# Altium integrated library Altera Arria V GZ.IntLib: 32 symbols (part 23 of 36)
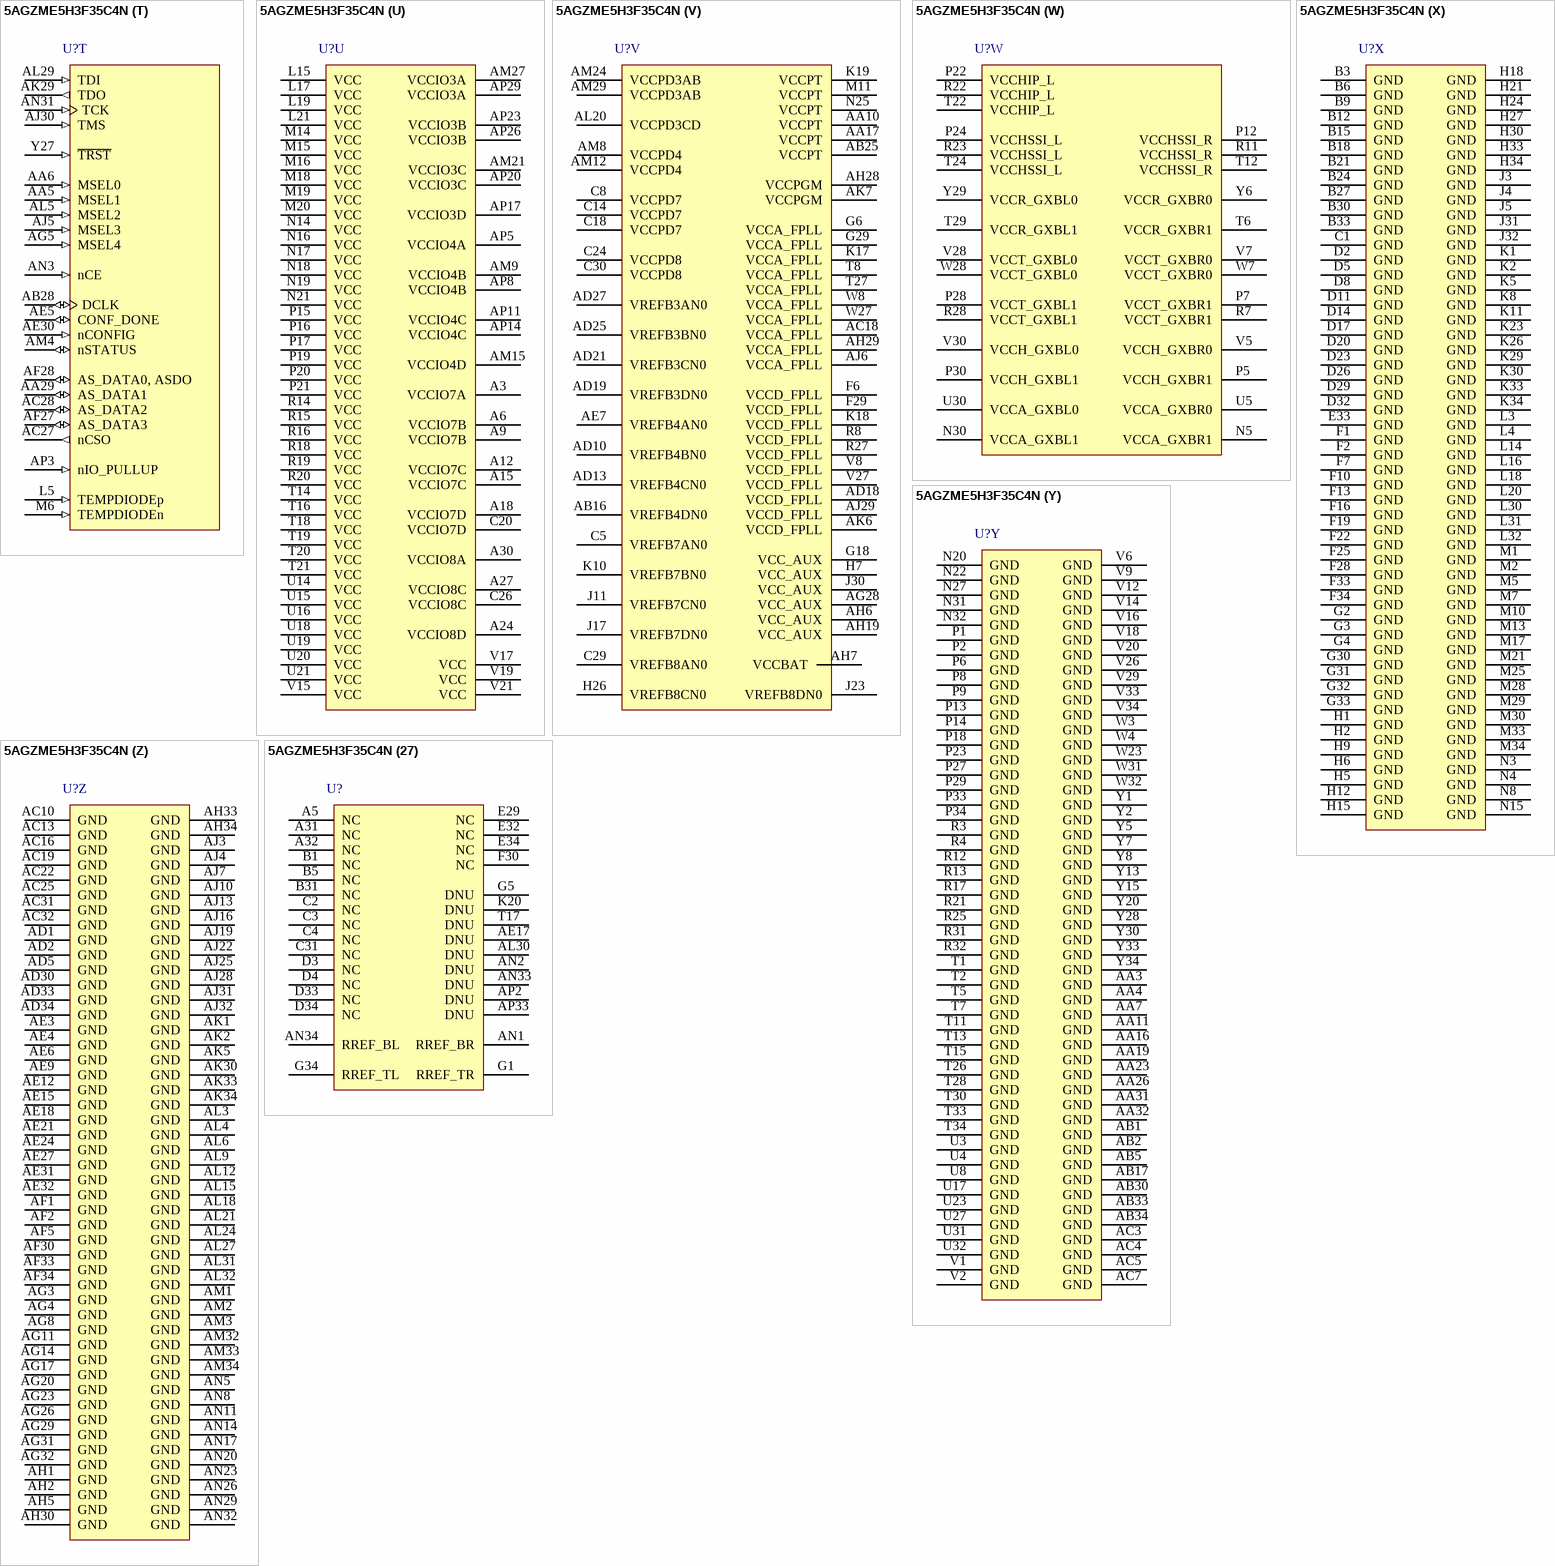
[diagram p221: symbol 5AGZME5H3F35C4N]
## 5AGZME5H3F35C4N
designator U?
Arria V GZ Family FPGA, 0.82 to 0.88 V Supply, 534 I/O Pins, 24 PLLs, 1152-Pin FBGA, Speed Grade 4, Commercial Grade, RoHS Compliant; Manufacturer: Altera; Device Group: 5AGZME5; GPIO: 534; Logic Elements (LE) (K): 400; NexusDeviceID: 5AGZME5H3F35C4N; Pb-Free: TRUE; Speed Grade: 4; DatasheetVersion: Rev. 3.5; PackageVersion: Rev. 3.0, 07/2012; PackageReference: FBGA1152_A-360; PackageDescription: 1152-Pin FineLine Ball-Grid Array (FBGA), Body 35 x 35 mm, Pitch 1 mm; Supplier 1: Digi-Key; Supplier Part Number 1: 5AGZME5H3F35C4N-ND; Supplier 2: Mouser; Supplier Part Number 2: 989-5AGZME5H3F35C4N; RoHS: RoHS Compliant; Subcategory: Arria V GZ; Voltage Supply: 0.82 to 0.88 V; Mounting Technology: Surface Mount; Code_JEDEC: MS-034; PartNumber: 5AGZME5H3F35C4N; ComponentLink1Description: Manufacturer URL; ComponentLink1URL: http://www.altera.com; ComponentLink2Description: Datasheet; ComponentLink2URL: http://www.altera.com/literature/hb/arria-v/av_51002.pdf; ComponentLink3Description: Package Specification; ComponentLink3URL: http://www.altera.com/devicepackaging/04R00441-02.pdf; ComponentLink4Description: Device Handbook URL; ComponentLink4URL: http://www.altera.com/literature/hb/arria-v/arriav_handbook.pdf; ComponentLink5Description: Device Overview URL; ComponentLink5URL: http://www.altera.com/literature/hb/arria-v/av_51001.pdf; ComponentLink6Description: Device Pin-Out URL; ComponentLink6URL: http://www.altera.com/literature/dp/arria-v/5AGZME5.xls; ComponentLink7Description: Product URL; ComponentLink7URL: http://www.buyaltera.com/scripts/partsearch.dll?Detail&name=5AGZME5H3F35C4N-ND
footprint ALTR-FBGA1152_A-360 (BGA, 1152-Balls, Body 35x35mm, Pitch 1mm)
part A pins: AA28 IO, DATA16, (DIFFIO_RX_B12p, DIFFOUT_B12p, DQ4B, DQ2B, DQ1B) (io), AA30 IO, DATA12, (DIFFIO_RX_B10p, DIFFOUT_B10p, DQS4B, DQS2B/CQ2B, DQ1B/CQn1B) (io), AB27 IO, DATA15, (DIFFIO_RX_B12n, DIFFOUT_B12n, DQ4B, DQ2B, DQ1B) (io), AB29 IO, DATA11, (DIFFIO_RX_B10n, DIFFOUT_B10n, DQSn4B, DQSn2B/DQ2B, DQ1B) (io), AC29 IO, DATA7, (DIFFIO_RX_B8n, DIFFOUT_B8n, DQSn3B, DQ2B, DQ1B) (io), AC30 IO, DATA8, (DIFFIO_RX_B8p, DIFFOUT_B8p, DQS3B, DQ2B/CQn2B, DQ1B) (io), AD28 IO, DATA14, (DIFFIO_TX_B11p, DIFFOUT_B11p, DQ4B, DQ2B, DQ1B) (io), AD29 IO, DATA6, (DIFFIO_TX_B7p, DIFFOUT_B7p, DQ3B, DQ2B, DQ1B) (io), AE28 IO, DATA13, (DIFFIO_TX_B11n, DIFFOUT_B11n, DQ4B, DQ2B, DQ1B) (io), AE29 IO, DATA5, (DIFFIO_TX_B7n, DIFFOUT_B7n, DQ3B, DQ2B, DQ1B) (io), AF29 IO, DATA9, (DIFFIO_TX_B9n, DIFFOUT_B9n, DQ3B, DQ2B, DQ1B) (io), AG27 IO, DATA18, (DIFFIO_TX_B13p, DIFFOUT_B13p, DQ5B, DQ3B, DQ1B) (io), AG30 IO, DATA10, (DIFFIO_TX_B9p, DIFFOUT_B9p, DQ3B, DQ2B, DQ1B) (io), AH26 IO, DATA20, (DIFFIO_RX_B14p, DIFFOUT_B14p, DQS5B, DQ3B/CQn3B, DQS1B/CQ1B) (io), AH27 IO, DATA17, (DIFFIO_TX_B13n, DIFFOUT_B13n, DQ5B, DQ3B, DQ1B) (io), AJ26 IO, DATA19, (DIFFIO_RX_B14n, DIFFOUT_B14n, DQSn5B, DQ3B, DQSn1B/DQ1B) (io), AJ27 IO, DATA22, (DIFFIO_TX_B15p, DIFFOUT_B15p, DQ5B, DQ3B, DQ1B) (io), AK26 IO, DATA23, (DIFFIO_RX_B16n, DIFFOUT_B16n, DQSn6B, DQSn3B/DQ3B, DQ1B) (io), AK27 IO, DATA24, (DIFFIO_RX_B16p, DIFFOUT_B16p, DQS6B, DQS3B/CQ3B, DQ1B) (io), AK28 IO, DATA21, (DIFFIO_TX_B15n, DIFFOUT_B15n, DQ5B, DQ3B, DQ1B) (io), AL25 IO, DATA28, (DIFFIO_RX_B18p, DIFFOUT_B18p, DQ6B, DQ3B, DQ1B) (io), AL26 IO, DATA26, (DIFFIO_TX_B17p, DIFFOUT_B17p, DQ6B, DQ3B, DQ1B) (io), AL28 IO, DATA3, (DIFFIO_RX_B6n, DIFFOUT_B6n, DQ2B, DQ1B) (io), AM25 IO, DATA27, (DIFFIO_RX_B18n, DIFFOUT_B18n, DQ6B, DQ3B, DQ1B) (io), AM26 IO, DATA25, (DIFFIO_TX_B17n, DIFFOUT_B17n, DQ6B, DQ3B, DQ1B) (io), AM28 IO, DATA4, (DIFFIO_RX_B6p, DIFFOUT_B6p, DQ2B, DQ1B) (io), AM30 IO, RZQ_0, (DIFFIO_RX_B2n, DIFFOUT_B2n, DQSn1B, DQ1B) (io), AM31 IO, DEV_OE, (DIFFIO_RX_B2p, DIFFOUT_B2p, DQS1B, DQ1B/CQn1B) (io), AN27 IO, DATA2, (DIFFIO_TX_B5p, DIFFOUT_B5p, DQ2B, DQ1B) (io), AN28 IO, DATA0, (DIFFIO_RX_B4p, DIFFOUT_B4p, DQS2B, DQS1B/CQ1B) (io), AN30 IO, INIT_DONE, (DIFFIO_TX_B3p, DIFFOUT_B3p, DQ1B, DQ1B) (io), AP27 IO, DATA1, (DIFFIO_TX_B5n, DIFFOUT_B5n, DQ2B, DQ1B) (io), AP28 IO, nCEO, (DIFFIO_RX_B4n, DIFFOUT_B4n, DQSn2B, DQSn1B/DQ1B) (io), AP30 IO, DEV_CLRn, (DIFFIO_TX_B3n, DIFFOUT_B3n, DQ1B, DQ1B) (io), AP31 IO, CRC_ERROR, (DIFFIO_TX_B1p, DIFFOUT_B1p, DQ1B, DQ1B) (io), AP32 IO, CLKUSR, (DIFFIO_TX_B1n, DIFFOUT_B1n, DQ1B, DQ1B) (io)
part B pins: AA24 IO, (DIFFIO_RX_B42n, DIFFOUT_B42n, DQ14B, DQ7B, DQ3B, DQ1B) (io), AA25 IO, CLK2p, (DIFFIO_RX_B28p, DIFFOUT_B28p, DQS10B, DQS5B/CQ5B, DQ2B, DQ1B/CQn1B) (io), AA27 IO, (DIFFIO_TX_B29n, DIFFOUT_B29n, DQ10B, DQ5B, DQ2B, DQ1B) (io), AB23 IO, CLK3p, (DIFFIO_RX_B30p, DIFFOUT_B30p, DQ10B, DQ5B, DQ2B, DQ1B) (io), AB24 IO, CLK3n, (DIFFIO_RX_B30n, DIFFOUT_B30n, DQ10B, DQ5B, DQ2B, DQ1B) (io), AB26 IO, CLK2n, (DIFFIO_RX_B28n, DIFFOUT_B28n, DQSn10B, DQSn5B/DQ5B, DQ2B, DQ1B) (io), AC24 IO, (DIFFIO_RX_B36p, DIFFOUT_B36p, DQ12B, DQ6B, DQ3B, DQ1B) (io), AC26 IO, (DIFFIO_RX_B32p, DIFFOUT_B32p, DQS11B, DQ6B/CQn6B, DQ3B, DQS1B/CQ1B) (io), AD24 IO, (DIFFIO_RX_B36n, DIFFOUT_B36n, DQ12B, DQ6B, DQ3B, DQ1B) (io), AD26 IO, (DIFFIO_RX_B32n, DIFFOUT_B32n, DQSn11B, DQ6B, DQ3B, DQSn1B/DQ1B) (io), AE25 IO, (DIFFIO_TX_B33p, DIFFOUT_B33p, DQ11B, DQ6B, DQ3B, DQ1B) (io), AE26 IO, (DIFFIO_TX_B31p, DIFFOUT_B31p, DQ11B, DQ6B, DQ3B, DQ1B) (io), AF24 IO, (DIFFIO_TX_B35p, DIFFOUT_B35p, DQ12B, DQ6B, DQ3B, DQ1B) (io), AF25 IO, (DIFFIO_TX_B33n, DIFFOUT_B33n, DQ11B, DQ6B, DQ3B, DQ1B) (io), AF26 IO, (DIFFIO_TX_B31n, DIFFOUT_B31n, DQ11B, DQ6B, DQ3B, DQ1B) (io), AG24 IO, (DIFFIO_TX_B35n, DIFFOUT_B35n, DQ12B, DQ6B, DQ3B, DQ1B) (io), AG25 IO, (DIFFIO_RX_B34p, DIFFOUT_B34p, DQS12B, DQS6B/CQ6B, DQ3B/CQn3B, DQ1B) (io), AH24 IO, CLK1p, (DIFFIO_RX_B24p, DIFFOUT_B24p, DQ8B, DQ4B, DQ2B, DQ1B) (io), AH25 IO, (DIFFIO_RX_B34n, DIFFOUT_B34n, DQSn12B, DQSn6B/DQ6B, DQ3B, DQ1B) (io), AJ23 IO, CvP_CONFDONE, (DIFFIO_TX_B23p, DIFFOUT_B23p, DQ8B, DQ4B, DQ2B, DQ1B) (io), AJ24 IO, CLK1n, (DIFFIO_RX_B24n, DIFFOUT_B24n, DQ8B, DQ4B, DQ2B, DQ1B) (io), AK23 IO, PR_ERROR, (DIFFIO_TX_B23n, DIFFOUT_B23n, DQ8B, DQ4B, DQ2B, DQ1B) (io), AK24 IO, CLK0n, (DIFFIO_RX_B22n, DIFFOUT_B22n, DQSn8B, DQSn4B/DQ4B, DQ2B, DQ1B) (io), AK25 IO, CLK0p, (DIFFIO_RX_B22p, DIFFOUT_B22p, DQS8B, DQS4B/CQ4B, DQ2B/CQn2B, DQ1B) (io), AL23 IO, PR_READY, (DIFFIO_TX_B21p, DIFFOUT_B21p, DQ7B, DQ4B, DQ2B, DQ1B) (io), AM23 IO, PR_REQUEST, (DIFFIO_TX_B21n, DIFFOUT_B21n, DQ7B, DQ4B, DQ2B, DQ1B) (io), AN24 IO, PR_DONE, (DIFFIO_RX_B20p, DIFFOUT_B20p, DQS7B, DQ4B/CQn4B, DQ2B, DQ1B) (io), AN25 IO, DATA30, (DIFFIO_TX_B19p, DIFFOUT_B19p, DQ7B, DQ4B, DQ2B, DQ1B) (io), AP24 IO, DATA31, (DIFFIO_RX_B20n, DIFFOUT_B20n, DQSn7B, DQ4B, DQ2B, DQ1B) (io), AP25 IO, DATA29, (DIFFIO_TX_B19n, DIFFOUT_B19n, DQ7B, DQ4B, DQ2B, DQ1B) (io), N23 IO, (DIFFIO_TX_B37p, DIFFOUT_B37p, DQ13B, DQ7B, DQ3B, DQ1B) (io), N24 IO, (DIFFIO_TX_B37n, DIFFOUT_B37n, DQ13B, DQ7B, DQ3B, DQ1B) (io), R24 IO, (DIFFIO_TX_B39p, DIFFOUT_B39p, DQ13B, DQ7B, DQ3B, DQ1B) (io), R26 IO, (DIFFIO_RX_B38n, DIFFOUT_B38n, DQSn13B, DQ7B, DQSn3B/DQ3B, DQ1B) (io), T23 IO, (DIFFIO_TX_B39n, DIFFOUT_B39n, DQ13B, DQ7B, DQ3B, DQ1B) (io), T25 IO, (DIFFIO_RX_B38p, DIFFOUT_B38p, DQS13B, DQ7B/CQn7B, DQS3B/CQ3B, DQ1B) (io), U24 IO, (DIFFIO_RX_B40p, DIFFOUT_B40p, DQS14B, DQS7B/CQ7B, DQ3B, DQ1B) (io), U25 IO, FPLL_BL_CLKOUT1, FPLL_BL_CLKOUTn, (DIFFIO_TX_B25n, DIFFOUT_B25n, DQ9B, DQ5B, DQ2B, DQ1B) (io), U26 IO, FPLL_BL_CLKOUT0, FPLL_BL_CLKOUTp, FPLL_BL_FB0, (DIFFIO_TX_B25p, DIFFOUT_B25p, DQ9B, DQ5B, DQ2B, DQ1B) (io), V23 IO, (DIFFIO_RX_B40n, DIFFOUT_B40n, DQSn14B, DQSn7B/DQ7B, DQ3B, DQ1B) (io), V24 IO, (DIFFIO_TX_B41p, DIFFOUT_B41p, DQ14B, DQ7B, DQ3B, DQ1B) (io), V25 IO, (DIFFIO_TX_B27p, DIFFOUT_B27p, DQ9B, DQ5B, DQ2B, DQ1B) (io), W24 IO, (DIFFIO_TX_B41n, DIFFOUT_B41n, DQ14B, DQ7B, DQ3B, DQ1B) (io), W25 IO, FPLL_BL_CLKOUT2, FPLL_BL_FBp, FPLL_BL_FB1, (DIFFIO_RX_B26p, DIFFOUT_B26p, DQS9B, DQ5B/CQn5B, DQS2B/CQ2B, DQ1B) (io), W26 IO, nPERSTL0, (DIFFIO_TX_B27n, DIFFOUT_B27n, DQ9B, DQ5B, DQ2B, DQ1B) (io), Y24 IO, (DIFFIO_RX_B42p, DIFFOUT_B42p, DQ14B, DQ7B, DQ3B, DQ1B) (io), Y25 IO, FPLL_BL_CLKOUT3, FPLL_BL_FBn, (DIFFIO_RX_B26n, DIFFOUT_B26n, DQSn9B, DQ5B, DQSn2B/DQ2B, DQ1B) (io), Y26 IO, (DIFFIO_TX_B29p, DIFFOUT_B29p, DQ10B, DQ5B, DQ2B, DQ1B) (io)
part C pins: AA20 IO, (DIFFIO_TX_B63p, DIFFOUT_B63p, DQ21B, DQ11B, DQ5B, DQ2B) (io), AA21 IO, (DIFFIO_RX_B62n, DIFFOUT_B62n, DQSn21B, DQ11B, DQSn5B/DQ5B, DQ2B) (io), AA22 IO, (DIFFIO_TX_B51n, DIFFOUT_B51n, DQ17B, DQ9B, DQ4B, DQ2B) (io), AB20 IO, (DIFFIO_TX_B63n, DIFFOUT_B63n, DQ21B, DQ11B, DQ5B, DQ2B) (io), AB21 IO, (DIFFIO_RX_B52p, DIFFOUT_B52p, DQS18B, DQS9B/CQ9B, DQ4B, DQ2B/CQn2B) (io), AB22 IO, (DIFFIO_RX_B52n, DIFFOUT_B52n, DQSn18B, DQSn9B/DQ9B, DQ4B, DQ2B) (io), AC20 IO, (DIFFIO_RX_B64p, DIFFOUT_B64p, DQS22B, DQS11B/CQ11B, DQ5B, DQ2B) (io), AC21 IO, (DIFFIO_RX_B64n, DIFFOUT_B64n, DQSn22B, DQSn11B/DQ11B, DQ5B, DQ2B) (io), AC23 IO, (DIFFIO_TX_B53p, DIFFOUT_B53p, DQ18B, DQ9B, DQ4B, DQ2B) (io), AD20 IO, (DIFFIO_TX_B65p, DIFFOUT_B65p, DQ22B, DQ11B, DQ5B, DQ2B) (io), AD22 IO, (DIFFIO_RX_B54p, DIFFOUT_B54p, DQ18B, DQ9B, DQ4B, DQ2B) (io), AD23 IO, (DIFFIO_TX_B53n, DIFFOUT_B53n, DQ18B, DQ9B, DQ4B, DQ2B) (io), AE20 IO, (DIFFIO_TX_B65n, DIFFOUT_B65n, DQ22B, DQ11B, DQ5B, DQ2B) (io), AE22 IO, (DIFFIO_RX_B54n, DIFFOUT_B54n, DQ18B, DQ9B, DQ4B, DQ2B) (io), AE23 IO, (DIFFIO_TX_B55p, DIFFOUT_B55p, DQ19B, DQ10B, DQ5B, DQ2B) (io), AF20 IO, (DIFFIO_RX_B66p, DIFFOUT_B66p, DQ22B, DQ11B, DQ5B, DQ2B) (io), AF21 IO, (DIFFIO_RX_B66n, DIFFOUT_B66n, DQ22B, DQ11B, DQ5B, DQ2B) (io), AF22 IO, (DIFFIO_TX_B57p, DIFFOUT_B57p, DQ19B, DQ10B, DQ5B, DQ2B) (io), AF23 IO, (DIFFIO_TX_B55n, DIFFOUT_B55n, DQ19B, DQ10B, DQ5B, DQ2B) (io), AG21 IO, (DIFFIO_RX_B58p, DIFFOUT_B58p, DQS20B, DQS10B/CQ10B, DQ5B/CQn5B, DQ2B) (io), AG22 IO, (DIFFIO_TX_B57n, DIFFOUT_B57n, DQ19B, DQ10B, DQ5B, DQ2B) (io), AH20 IO, (DIFFIO_RX_B60p, DIFFOUT_B60p, DQ20B, DQ10B, DQ5B, DQ2B) (io), AH21 IO, (DIFFIO_RX_B58n, DIFFOUT_B58n, DQSn20B, DQSn10B/DQ10B, DQ5B, DQ2B) (io), AH22 IO, (DIFFIO_RX_B56p, DIFFOUT_B56p, DQS19B, DQ10B/CQn10B, DQ5B, DQS2B/CQ2B) (io), AH23 IO, (DIFFIO_RX_B56n, DIFFOUT_B56n, DQSn19B, DQ10B, DQ5B, DQSn2B/DQ2B) (io), AJ20 IO, (DIFFIO_TX_B59p, DIFFOUT_B59p, DQ20B, DQ10B, DQ5B, DQ2B) (io), AJ21 IO, (DIFFIO_RX_B60n, DIFFOUT_B60n, DQ20B, DQ10B, DQ5B, DQ2B) (io), AK20 IO, (DIFFIO_TX_B59n, DIFFOUT_B59n, DQ20B, DQ10B, DQ5B, DQ2B) (io), AK21 IO, (DIFFIO_RX_B48p, DIFFOUT_B48p, DQ16B, DQ8B, DQ4B, DQ2B) (io), AK22 IO, (DIFFIO_RX_B48n, DIFFOUT_B48n, DQ16B, DQ8B, DQ4B, DQ2B) (io), AL22 IO, (DIFFIO_TX_B45p, DIFFOUT_B45p, DQ15B, DQ8B, DQ4B, DQ2B) (io), AM19 IO, (DIFFIO_TX_B47p, DIFFOUT_B47p, DQ16B, DQ8B, DQ4B, DQ2B) (io), AM20 IO, (DIFFIO_TX_B47n, DIFFOUT_B47n, DQ16B, DQ8B, DQ4B, DQ2B) (io), AM22 IO, (DIFFIO_TX_B45n, DIFFOUT_B45n, DQ15B, DQ8B, DQ4B, DQ2B) (io), AN19 IO, (DIFFIO_RX_B46p, DIFFOUT_B46p, DQS16B, DQS8B/CQ8B, DQ4B/CQn4B, DQ2B) (io), AN21 IO, (DIFFIO_TX_B43p, DIFFOUT_B43p, DQ15B, DQ8B, DQ4B, DQ2B) (io), AN22 IO, (DIFFIO_RX_B44p, DIFFOUT_B44p, DQS15B, DQ8B/CQn8B, DQ4B, DQ2B) (io), AP19 IO, (DIFFIO_RX_B46n, DIFFOUT_B46n, DQSn16B, DQSn8B/DQ8B, DQ4B, DQ2B) (io), AP21 IO, (DIFFIO_TX_B43n, DIFFOUT_B43n, DQ15B, DQ8B, DQ4B, DQ2B) (io), AP22 IO, (DIFFIO_RX_B44n, DIFFOUT_B44n, DQSn15B, DQ8B, DQ4B, DQ2B) (io), U22 IO, (DIFFIO_TX_B49p, DIFFOUT_B49p, DQ17B, DQ9B, DQ4B, DQ2B) (io), V22 IO, (DIFFIO_TX_B49n, DIFFOUT_B49n, DQ17B, DQ9B, DQ4B, DQ2B) (io), W20 IO, (DIFFIO_TX_B61n, DIFFOUT_B61n, DQ21B, DQ11B, DQ5B, DQ2B) (io), W21 IO, (DIFFIO_TX_B61p, DIFFOUT_B61p, DQ21B, DQ11B, DQ5B, DQ2B) (io), W22 IO, (DIFFIO_RX_B50p, DIFFOUT_B50p, DQS17B, DQ9B/CQn9B, DQS4B/CQ4B, DQ2B) (io), Y21 IO, (DIFFIO_RX_B62p, DIFFOUT_B62p, DQS21B, DQ11B/CQn11B, DQS5B/CQ5B, DQ2B) (io), Y22 IO, (DIFFIO_RX_B50n, DIFFOUT_B50n, DQSn17B, DQ9B, DQSn4B/DQ4B, DQ2B) (io), Y23 IO, (DIFFIO_TX_B51p, DIFFOUT_B51p, DQ17B, DQ9B, DQ4B, DQ2B) (io)
part D pins: AA18 IO, (DIFFIO_RX_B74n, DIFFOUT_B74n, DQSn25B, DQ13B, DQSn6B/DQ6B) (io), AB18 IO, CLK4p, (DIFFIO_RX_B76p, DIFFOUT_B76p, DQS26B, DQS13B/CQ13B, DQ6B) (io), AB19 IO, CLK4n, (DIFFIO_RX_B76n, DIFFOUT_B76n, DQSn26B, DQSn13B/DQ13B, DQ6B) (io), AE19 IO, (DIFFIO_TX_B77p, DIFFOUT_B77p, DQ26B, DQ13B, DQ6B) (io), AF18 IO, CLK5p, (DIFFIO_RX_B78p, DIFFOUT_B78p, DQ26B, DQ13B, DQ6B) (io), AF19 IO, (DIFFIO_TX_B77n, DIFFOUT_B77n, DQ26B, DQ13B, DQ6B) (io), AG18 IO, CLK5n, (DIFFIO_RX_B78n, DIFFOUT_B78n, DQ26B, DQ13B, DQ6B) (io), AG19 IO, (DIFFIO_TX_B71p, DIFFOUT_B71p, DQ24B, DQ12B, DQ6B) (io), AH18 IO, (DIFFIO_TX_B71n, DIFFOUT_B71n, DQ24B, DQ12B, DQ6B) (io), AJ18 IO, (DIFFIO_RX_B72p, DIFFOUT_B72p, DQ24B, DQ12B, DQ6B) (io), AK17 IO, (DIFFIO_RX_B70p, DIFFOUT_B70p, DQS24B, DQS12B/CQ12B, DQ6B/CQn6B) (io), AK18 IO, (DIFFIO_RX_B70n, DIFFOUT_B70n, DQSn24B, DQSn12B/DQ12B, DQ6B) (io), AK19 IO, (DIFFIO_RX_B72n, DIFFOUT_B72n, DQ24B, DQ12B, DQ6B) (io), AL17 IO, (DIFFIO_TX_B69p, DIFFOUT_B69p, DQ23B, DQ12B, DQ6B) (io), AL19 IO, (DIFFIO_RX_B68p, DIFFOUT_B68p, DQS23B, DQ12B/CQn12B, DQ6B) (io), AM17 IO, (DIFFIO_TX_B69n, DIFFOUT_B69n, DQ23B, DQ12B, DQ6B) (io), AM18 IO, (DIFFIO_RX_B68n, DIFFOUT_B68n, DQSn23B, DQ12B, DQ6B) (io), AN18 IO, (DIFFIO_TX_B67p, DIFFOUT_B67p, DQ23B, DQ12B, DQ6B) (io), AP18 IO, (DIFFIO_TX_B67n, DIFFOUT_B67n, DQ23B, DQ12B, DQ6B) (io), W18 IO, (DIFFIO_TX_B75p, DIFFOUT_B75p, DQ25B, DQ13B, DQ6B) (io), W19 IO, (DIFFIO_TX_B73p, DIFFOUT_B73p, DQ25B, DQ13B, DQ6B) (io), Y17 IO, (DIFFIO_RX_B74p, DIFFOUT_B74p, DQS25B, DQ13B/CQn13B, DQS6B/CQ6B) (io), Y18 IO, (DIFFIO_TX_B75n, DIFFOUT_B75n, DQ25B, DQ13B, DQ6B) (io), Y19 IO, (DIFFIO_TX_B73n, DIFFOUT_B73n, DQ25B, DQ13B, DQ6B) (io)
part E pins: AB6 IO, CLK10p, (DIFFIO_RX_B202p, DIFFOUT_B202p, DQS68B, DQS24B/CQ24B, DQ12B/CQn12B) (io), AB7 IO, CLK10n, (DIFFIO_RX_B202n, DIFFOUT_B202n, DQSn68B, DQSn24B/DQ24B, DQ12B) (io), AB8 IO, CLK11p, (DIFFIO_RX_B200p, DIFFOUT_B200p, DQS67B, DQ24B/CQn24B, DQ12B) (io), AC6 IO, FPLL_BR_CLKOUT2, FPLL_BR_FBp, FPLL_BR_FB1, (DIFFIO_RX_B204p, DIFFOUT_B204p, DQ68B, DQ24B, DQ12B) (io), AC8 IO, CLK11n, (DIFFIO_RX_B200n, DIFFOUT_B200n, DQSn67B, DQ24B, DQ12B) (io), AD6 IO, FPLL_BR_CLKOUT3, FPLL_BR_FBn, (DIFFIO_RX_B204n, DIFFOUT_B204n, DQ68B, DQ24B, DQ12B) (io), AD7 IO, (DIFFIO_TX_B199p, DIFFOUT_B199p, DQ67B, DQ24B, DQ12B) (io), AD8 IO, (DIFFIO_TX_B199n, DIFFOUT_B199n, DQ67B, DQ24B, DQ12B) (io), AF6 IO, FPLL_BR_CLKOUT0, FPLL_BR_CLKOUTp, FPLL_BR_FB0, (DIFFIO_TX_B203p, DIFFOUT_B203p, DQ68B, DQ24B, DQ12B) (io), AF7 IO, (DIFFIO_TX_B201p, DIFFOUT_B201p, DQ67B, DQ24B, DQ12B) (io), AG6 IO, FPLL_BR_CLKOUT1, FPLL_BR_CLKOUTn, (DIFFIO_TX_B203n, DIFFOUT_B203n, DQ68B, DQ24B, DQ12B) (io), AG7 IO, (DIFFIO_TX_B201n, DIFFOUT_B201n, DQ67B, DQ24B, DQ12B) (io), AK8 IO, (DIFFIO_TX_B205p, DIFFOUT_B205p, DQ69B, DQ25B, DQ12B) (io), AL7 IO, CLK9p, (DIFFIO_RX_B206p, DIFFOUT_B206p, DQS69B, DQ25B/CQn25B, DQS12B/CQ12B) (io), AL8 IO, (DIFFIO_TX_B205n, DIFFOUT_B205n, DQ69B, DQ25B, DQ12B) (io), AM5 IO, (DIFFIO_RX_B210n, DIFFOUT_B210n, DQ70B, DQ25B, DQ12B) (io), AM6 IO, RZQ_1, (DIFFIO_RX_B210p, DIFFOUT_B210p, DQ70B, DQ25B, DQ12B) (io), AM7 IO, CLK9n, (DIFFIO_RX_B206n, DIFFOUT_B206n, DQSn69B, DQ25B, DQSn12B/DQ12B) (io), AN4 IO, CLK8p, (DIFFIO_RX_B208p, DIFFOUT_B208p, DQS70B, DQS25B/CQ25B, DQ12B) (io), AN6 IO, (DIFFIO_TX_B209p, DIFFOUT_B209p, DQ70B, DQ25B, DQ12B) (io), AN7 IO, (DIFFIO_TX_B207p, DIFFOUT_B207p, DQ69B, DQ25B, DQ12B) (io), AP4 IO, CLK8n, (DIFFIO_RX_B208n, DIFFOUT_B208n, DQSn70B, DQSn25B/DQ25B, DQ12B) (io), AP6 IO, (DIFFIO_TX_B209n, DIFFOUT_B209n, DQ70B, DQ25B, DQ12B) (io), AP7 IO, (DIFFIO_TX_B207n, DIFFOUT_B207n, DQ69B, DQ25B, DQ12B) (io)
part F pins: AA8 IO, (DIFFIO_TX_B189n, DIFFOUT_B189n, DQ63B, DQ22B, DQ11B, DQ4B) (io), AA9 IO, (DIFFIO_TX_B187p, DIFFOUT_B187p, DQ63B, DQ22B, DQ11B, DQ4B) (io), AB9 IO, (DIFFIO_TX_B187n, DIFFOUT_B187n, DQ63B, DQ22B, DQ11B, DQ4B) (io), AB10 IO, (DIFFIO_RX_B176n, DIFFOUT_B176n, DQSn59B, DQ20B, DQ10B, DQ4B) (io), AB11 IO, (DIFFIO_RX_B176p, DIFFOUT_B176p, DQS59B, DQ20B/CQn20B, DQ10B, DQ4B) (io), AC9 IO, (DIFFIO_RX_B188p, DIFFOUT_B188p, DQS63B, DQ22B/CQn22B, DQ11B, DQS4B/CQ4B) (io), AC11 IO, (DIFFIO_TX_B175n, DIFFOUT_B175n, DQ59B, DQ20B, DQ10B, DQ4B) (io), AD9 IO, (DIFFIO_RX_B188n, DIFFOUT_B188n, DQSn63B, DQ22B, DQ11B, DQSn4B/DQ4B) (io), AD11 IO, (DIFFIO_TX_B175p, DIFFOUT_B175p, DQ59B, DQ20B, DQ10B, DQ4B) (io), AE8 IO, (DIFFIO_RX_B184p, DIFFOUT_B184p, DQS62B, DQS21B/CQ21B, DQ10B, DQ4B/CQn4B) (io), AE10 IO, (DIFFIO_TX_B177n, DIFFOUT_B177n, DQ59B, DQ20B, DQ10B, DQ4B) (io), AE11 IO, (DIFFIO_TX_B177p, DIFFOUT_B177p, DQ59B, DQ20B, DQ10B, DQ4B) (io), AF8 IO, (DIFFIO_RX_B184n, DIFFOUT_B184n, DQSn62B, DQSn21B/DQ21B, DQ10B, DQ4B) (io), AF9 IO, (DIFFIO_TX_B183p, DIFFOUT_B183p, DQ61B, DQ21B, DQ10B, DQ4B) (io), AF10 IO, (DIFFIO_TX_B183n, DIFFOUT_B183n, DQ61B, DQ21B, DQ10B, DQ4B) (io), AG9 IO, (DIFFIO_RX_B186p, DIFFOUT_B186p, DQ62B, DQ21B, DQ10B, DQ4B) (io), AG10 IO, (DIFFIO_RX_B182p, DIFFOUT_B182p, DQS61B, DQ21B/CQn21B, DQS10B/CQ10B, DQ4B) (io), AH8 IO, (DIFFIO_TX_B185p, DIFFOUT_B185p, DQ62B, DQ21B, DQ10B, DQ4B) (io), AH9 IO, (DIFFIO_RX_B186n, DIFFOUT_B186n, DQ62B, DQ21B, DQ10B, DQ4B) (io), AH10 IO, (DIFFIO_RX_B182n, DIFFOUT_B182n, DQSn61B, DQ21B, DQSn10B/DQ10B, DQ4B) (io), AH11 IO, (DIFFIO_TX_B181p, DIFFOUT_B181p, DQ61B, DQ21B, DQ10B, DQ4B) (io), AJ8 IO, (DIFFIO_TX_B185n, DIFFOUT_B185n, DQ62B, DQ21B, DQ10B, DQ4B) (io), AJ9 IO, (DIFFIO_RX_B194p, DIFFOUT_B194p, DQS65B, DQ23B/CQn23B, DQS11B/CQ11B, DQ4B) (io), AJ11 IO, (DIFFIO_TX_B181n, DIFFOUT_B181n, DQ61B, DQ21B, DQ10B, DQ4B) (io), AK9 IO, (DIFFIO_RX_B194n, DIFFOUT_B194n, DQSn65B, DQ23B, DQSn11B/DQ11B, DQ4B) (io), AK10 IO, (DIFFIO_TX_B193p, DIFFOUT_B193p, DQ65B, DQ23B, DQ11B, DQ4B) (io), AK11 IO, (DIFFIO_TX_B193n, DIFFOUT_B193n, DQ65B, DQ23B, DQ11B, DQ4B) (io), AL10 IO, (DIFFIO_RX_B196p, DIFFOUT_B196p, DQS66B, DQS23B/CQ23B, DQ11B, DQ4B) (io), AL11 IO, (DIFFIO_TX_B195p, DIFFOUT_B195p, DQ65B, DQ23B, DQ11B, DQ4B) (io), AM10 IO, (DIFFIO_RX_B196n, DIFFOUT_B196n, DQSn66B, DQSn23B/DQ23B, DQ11B, DQ4B) (io), AM11 IO, (DIFFIO_TX_B195n, DIFFOUT_B195n, DQ65B, DQ23B, DQ11B, DQ4B) (io), AN9 IO, (DIFFIO_TX_B197p, DIFFOUT_B197p, DQ66B, DQ23B, DQ11B, DQ4B) (io), AN10 IO, (DIFFIO_RX_B198p, DIFFOUT_B198p, DQ66B, DQ23B, DQ11B, DQ4B) (io), AP9 IO, (DIFFIO_TX_B197n, DIFFOUT_B197n, DQ66B, DQ23B, DQ11B, DQ4B) (io), AP10 IO, (DIFFIO_RX_B198n, DIFFOUT_B198n, DQ66B, DQ23B, DQ11B, DQ4B) (io), R10 IO, (DIFFIO_RX_B190p, DIFFOUT_B190p, DQS64B, DQS22B/CQ22B, DQ11B/CQn11B, DQ4B) (io), T10 IO, (DIFFIO_RX_B190n, DIFFOUT_B190n, DQSn64B, DQSn22B/DQ22B, DQ11B, DQ4B) (io), U9 IO, (DIFFIO_RX_B192p, DIFFOUT_B192p, DQ64B, DQ22B, DQ11B, DQ4B) (io), U10 IO, (DIFFIO_TX_B179p, DIFFOUT_B179p, DQ60B, DQ20B, DQ10B, DQ4B) (io), U11 IO, (DIFFIO_TX_B179n, DIFFOUT_B179n, DQ60B, DQ20B, DQ10B, DQ4B) (io), V10 IO, (DIFFIO_RX_B192n, DIFFOUT_B192n, DQ64B, DQ22B, DQ11B, DQ4B) (io), V11 IO, (DIFFIO_RX_B178p, DIFFOUT_B178p, DQS60B, DQS20B/CQ20B, DQ10B/CQn10B, DQ4B) (io), W9 IO, (DIFFIO_TX_B191p, DIFFOUT_B191p, DQ64B, DQ22B, DQ11B, DQ4B) (io), W10 IO, (DIFFIO_TX_B191n, DIFFOUT_B191n, DQ64B, DQ22B, DQ11B, DQ4B) (io), W11 IO, (DIFFIO_RX_B178n, DIFFOUT_B178n, DQSn60B, DQSn20B/DQ20B, DQ10B, DQ4B) (io), Y9 IO, (DIFFIO_TX_B189p, DIFFOUT_B189p, DQ63B, DQ22B, DQ11B, DQ4B) (io), Y10 IO, (DIFFIO_RX_B180p, DIFFOUT_B180p, DQ60B, DQ20B, DQ10B, DQ4B) (io), Y11 IO, (DIFFIO_RX_B180n, DIFFOUT_B180n, DQ60B, DQ20B, DQ10B, DQ4B) (io)
part G pins: AA12 IO, (DIFFIO_TX_B165p, DIFFOUT_B165p, DQ55B, DQ18B, DQ9B, DQ3B) (io), AA13 IO, (DIFFIO_RX_B166p, DIFFOUT_B166p, DQS56B, DQS18B/CQ18B, DQ9B/CQn9B, DQ3B) (io), AA14 IO, (DIFFIO_RX_B154p, DIFFOUT_B154p, DQS52B, DQS16B/CQ16B, DQ8B/CQn8B, DQ3B) (io), AA15 IO, (DIFFIO_TX_B151p, DIFFOUT_B151p, DQ51B, DQ16B, DQ8B, DQ3B) (io), AB12 IO, (DIFFIO_TX_B165n, DIFFOUT_B165n, DQ55B, DQ18B, DQ9B, DQ3B) (io), AB13 IO, (DIFFIO_RX_B166n, DIFFOUT_B166n, DQSn56B, DQSn18B/DQ18B, DQ9B, DQ3B) (io), AB14 IO, (DIFFIO_RX_B154n, DIFFOUT_B154n, DQSn52B, DQSn16B/DQ16B, DQ8B, DQ3B) (io), AB15 IO, (DIFFIO_TX_B151n, DIFFOUT_B151n, DQ51B, DQ16B, DQ8B, DQ3B) (io), AC12 IO, (DIFFIO_TX_B163p, DIFFOUT_B163p, DQ55B, DQ18B, DQ9B, DQ3B) (io), AC14 IO, (DIFFIO_TX_B153p, DIFFOUT_B153p, DQ51B, DQ16B, DQ8B, DQ3B) (io), AC15 IO, (DIFFIO_RX_B152p, DIFFOUT_B152p, DQS51B, DQ16B/CQn16B, DQ8B, DQ3B) (io), AD12 IO, (DIFFIO_TX_B163n, DIFFOUT_B163n, DQ55B, DQ18B, DQ9B, DQ3B) (io), AD14 IO, (DIFFIO_TX_B153n, DIFFOUT_B153n, DQ51B, DQ16B, DQ8B, DQ3B) (io), AD15 IO, (DIFFIO_RX_B152n, DIFFOUT_B152n, DQSn51B, DQ16B, DQ8B, DQ3B) (io), AE13 IO, (DIFFIO_RX_B164n, DIFFOUT_B164n, DQSn55B, DQ18B, DQ9B, DQSn3B/DQ3B) (io), AE14 IO, (DIFFIO_RX_B164p, DIFFOUT_B164p, DQS55B, DQ18B/CQn18B, DQ9B, DQS3B/CQ3B) (io), AF11 IO, (DIFFIO_RX_B160n, DIFFOUT_B160n, DQSn54B, DQSn17B/DQ17B, DQ8B, DQ3B) (io), AF12 IO, (DIFFIO_RX_B162p, DIFFOUT_B162p, DQ54B, DQ17B, DQ8B, DQ3B) (io), AF13 IO, (DIFFIO_RX_B162n, DIFFOUT_B162n, DQ54B, DQ17B, DQ8B, DQ3B) (io), AF14 IO, (DIFFIO_TX_B161n, DIFFOUT_B161n, DQ54B, DQ17B, DQ8B, DQ3B) (io), AF15 IO, (DIFFIO_TX_B161p, DIFFOUT_B161p, DQ54B, DQ17B, DQ8B, DQ3B) (io), AG12 IO, (DIFFIO_RX_B160p, DIFFOUT_B160p, DQS54B, DQS17B/CQ17B, DQ8B, DQ3B/CQn3B) (io), AG13 IO, (DIFFIO_TX_B157n, DIFFOUT_B157n, DQ53B, DQ17B, DQ8B, DQ3B) (io), AH12 IO, (DIFFIO_RX_B158p, DIFFOUT_B158p, DQS53B, DQ17B/CQn17B, DQS8B/CQ8B, DQ3B) (io), AH13 IO, (DIFFIO_TX_B157p, DIFFOUT_B157p, DQ53B, DQ17B, DQ8B, DQ3B) (io), AH14 IO, (DIFFIO_TX_B159p, DIFFOUT_B159p, DQ53B, DQ17B, DQ8B, DQ3B) (io), AH15 IO, (DIFFIO_TX_B159n, DIFFOUT_B159n, DQ53B, DQ17B, DQ8B, DQ3B) (io), AJ12 IO, (DIFFIO_RX_B158n, DIFFOUT_B158n, DQSn53B, DQ17B, DQSn8B/DQ8B, DQ3B) (io), AJ14 IO, (DIFFIO_RX_B170p, DIFFOUT_B170p, DQS57B, DQ19B/CQn19B, DQS9B/CQ9B, DQ3B) (io), AK12 IO, (DIFFIO_TX_B171p, DIFFOUT_B171p, DQ57B, DQ19B, DQ9B, DQ3B) (io), AK13 IO, (DIFFIO_TX_B171n, DIFFOUT_B171n, DQ57B, DQ19B, DQ9B, DQ3B) (io), AK14 IO, (DIFFIO_RX_B170n, DIFFOUT_B170n, DQSn57B, DQ19B, DQSn9B/DQ9B, DQ3B) (io), AL13 IO, (DIFFIO_RX_B172p, DIFFOUT_B172p, DQS58B, DQS19B/CQ19B, DQ9B, DQ3B) (io), AL14 IO, (DIFFIO_TX_B169p, DIFFOUT_B169p, DQ57B, DQ19B, DQ9B, DQ3B) (io), AM13 IO, (DIFFIO_RX_B172n, DIFFOUT_B172n, DQSn58B, DQSn19B/DQ19B, DQ9B, DQ3B) (io), AM14 IO, (DIFFIO_TX_B169n, DIFFOUT_B169n, DQ57B, DQ19B, DQ9B, DQ3B) (io), AN12 IO, (DIFFIO_RX_B174p, DIFFOUT_B174p, DQ58B, DQ19B, DQ9B, DQ3B) (io), AN13 IO, (DIFFIO_TX_B173p, DIFFOUT_B173p, DQ58B, DQ19B, DQ9B, DQ3B) (io), AP12 IO, (DIFFIO_RX_B174n, DIFFOUT_B174n, DQ58B, DQ19B, DQ9B, DQ3B) (io), AP13 IO, (DIFFIO_TX_B173n, DIFFOUT_B173n, DQ58B, DQ19B, DQ9B, DQ3B) (io), U12 IO, (DIFFIO_TX_B167p, DIFFOUT_B167p, DQ56B, DQ18B, DQ9B, DQ3B) (io), U13 IO, (DIFFIO_TX_B167n, DIFFOUT_B167n, DQ56B, DQ18B, DQ9B, DQ3B) (io), V13 IO, (DIFFIO_RX_B156p, DIFFOUT_B156p, DQ52B, DQ16B, DQ8B, DQ3B) (io), W12 IO, (DIFFIO_RX_B168n, DIFFOUT_B168n, DQ56B, DQ18B, DQ9B, DQ3B) (io), W13 IO, (DIFFIO_RX_B156n, DIFFOUT_B156n, DQ52B, DQ16B, DQ8B, DQ3B) (io), W14 IO, (DIFFIO_TX_B155p, DIFFOUT_B155p, DQ52B, DQ16B, DQ8B, DQ3B) (io), Y12 IO, (DIFFIO_RX_B168p, DIFFOUT_B168p, DQ56B, DQ18B, DQ9B, DQ3B) (io), Y14 IO, (DIFFIO_TX_B155n, DIFFOUT_B155n, DQ52B, DQ16B, DQ8B, DQ3B) (io)
part H pins: AC17 IO, FPLL_BC_CLKOUT0, FPLL_BC_CLKOUTp, FPLL_BC_FB0, (DIFFIO_TX_B139p, DIFFOUT_B139p, DQ47B, DQ14B, DQ7B) (io), AD16 IO, CLK7n, (DIFFIO_RX_B144n, DIFFOUT_B144n, DQ48B, DQ14B, DQ7B) (io), AD17 IO, FPLL_BC_CLKOUT1, FPLL_BC_CLKOUTn, (DIFFIO_TX_B139n, DIFFOUT_B139n, DQ47B, DQ14B, DQ7B) (io), AE16 IO, CLK7p, (DIFFIO_RX_B144p, DIFFOUT_B144p, DQ48B, DQ14B, DQ7B) (io), AF16 IO, CLK6p, (DIFFIO_RX_B142p, DIFFOUT_B142p, DQS48B, DQS14B/CQ14B, DQ7B/CQn7B) (io), AF17 IO, CLK6n, (DIFFIO_RX_B142n, DIFFOUT_B142n, DQSn48B, DQSn14B/DQ14B, DQ7B) (io), AG15 IO, (DIFFIO_TX_B143n, DIFFOUT_B143n, DQ48B, DQ14B, DQ7B) (io), AG16 IO, (DIFFIO_TX_B143p, DIFFOUT_B143p, DQ48B, DQ14B, DQ7B) (io), AH16 IO, (DIFFIO_TX_B145p, DIFFOUT_B145p, DQ49B, DQ15B, DQ7B) (io), AH17 IO, (DIFFIO_TX_B145n, DIFFOUT_B145n, DQ49B, DQ15B, DQ7B) (io), AJ15 IO, (DIFFIO_RX_B146p, DIFFOUT_B146p, DQS49B, DQ15B/CQn15B, DQS7B/CQ7B) (io), AJ17 IO, (DIFFIO_TX_B147p, DIFFOUT_B147p, DQ49B, DQ15B, DQ7B) (io), AK15 IO, (DIFFIO_RX_B146n, DIFFOUT_B146n, DQSn49B, DQ15B, DQSn7B/DQ7B) (io), AK16 IO, (DIFFIO_TX_B147n, DIFFOUT_B147n, DQ49B, DQ15B, DQ7B) (io), AL16 IO, (DIFFIO_RX_B148n, DIFFOUT_B148n, DQSn50B, DQSn15B/DQ15B, DQ7B) (io), AM16 IO, (DIFFIO_RX_B148p, DIFFOUT_B148p, DQS50B, DQS15B/CQ15B, DQ7B) (io), AN15 IO, (DIFFIO_RX_B150p, DIFFOUT_B150p, DQ50B, DQ15B, DQ7B) (io), AN16 IO, (DIFFIO_TX_B149p, DIFFOUT_B149p, DQ50B, DQ15B, DQ7B) (io), AP15 IO, (DIFFIO_RX_B150n, DIFFOUT_B150n, DQ50B, DQ15B, DQ7B) (io), AP16 IO, (DIFFIO_TX_B149n, DIFFOUT_B149n, DQ50B, DQ15B, DQ7B) (io), W15 IO, (DIFFIO_TX_B141p, DIFFOUT_B141p, DQ47B, DQ14B, DQ7B) (io), W16 IO, (DIFFIO_TX_B141n, DIFFOUT_B141n, DQ47B, DQ14B, DQ7B) (io), W17 IO, FPLL_BC_CLKOUT3, FPLL_BC_FBn, (DIFFIO_RX_B140n, DIFFOUT_B140n, DQSn47B, DQ14B, DQ7B) (io), Y16 IO, FPLL_BC_CLKOUT2, FPLL_BC_FBp, FPLL_BC_FB1, (DIFFIO_RX_B140p, DIFFOUT_B140p, DQS47B, DQ14B/CQn14B, DQ7B) (io)
part I pins: A2 IO, CLK13n, (DIFFIO_RX_T5n, DIFFOUT_T5n) (io), A4 IO, CLK15n, (DIFFIO_RX_T11n, DIFFOUT_T11n) (io), B2 IO, CLK13p, (DIFFIO_RX_T5p, DIFFOUT_T5p) (io), B4 IO, CLK15p, (DIFFIO_RX_T11p, DIFFOUT_T11p) (io), D1 IO, CLK12n, (DIFFIO_RX_T3n, DIFFOUT_T3n, DQSn1T) (io), D6 IO, CLK14p, (DIFFIO_RX_T9p, DIFFOUT_T9p, DQS3T) (io), D7 IO, CLK14n, (DIFFIO_RX_T9n, DIFFOUT_T9n, DQSn3T) (io), E1 IO, CLK12p, (DIFFIO_RX_T3p, DIFFOUT_T3p, DQS1T) (io), E2 IO, (DIFFIO_TX_T2p, DIFFOUT_T2p, DQ1T) (io), E3 IO, (DIFFIO_TX_T2n, DIFFOUT_T2n, DQ1T) (io), E4 IO, FPLL_TR_CLKOUT2, FPLL_TR_FBp, FPLL_TR_FB1, (DIFFIO_RX_T7p, DIFFOUT_T7p, DQ3T) (io), E5 IO, FPLL_TR_CLKOUT3, FPLL_TR_FBn, (DIFFIO_RX_T7n, DIFFOUT_T7n, DQ3T) (io), E6 IO, FPLL_TR_CLKOUT1, FPLL_TR_CLKOUTn, (DIFFIO_TX_T8n, DIFFOUT_T8n, DQ3T) (io), F3 IO, RZQ_4, (DIFFIO_RX_T1p, DIFFOUT_T1p, DQ1T) (io), F4 IO, (DIFFIO_RX_T1n, DIFFOUT_T1n, DQ1T) (io), F5 IO, FPLL_TR_CLKOUT0, FPLL_TR_CLKOUTp, FPLL_TR_FB0, (DIFFIO_TX_T8p, DIFFOUT_T8p, DQ3T) (io)
part J pins: A7 IO, (DIFFIO_RX_T19n, DIFFOUT_T19n, DQ7T, DQ4T, DQ2T, DQ1T) (io), A8 IO, (DIFFIO_RX_T21n, DIFFOUT_T21n, DQSn7T, DQSn4T/DQ4T, DQ2T, DQ1T) (io), A10 IO, (DIFFIO_TX_T22p, DIFFOUT_T22p, DQ8T, DQ4T, DQ2T, DQ1T) (io), A11 IO, (DIFFIO_TX_T22n, DIFFOUT_T22n, DQ8T, DQ4T, DQ2T, DQ1T) (io), B7 IO, (DIFFIO_RX_T19p, DIFFOUT_T19p, DQ7T, DQ4T, DQ2T, DQ1T) (io), B8 IO, (DIFFIO_RX_T21p, DIFFOUT_T21p, DQS7T, DQS4T/CQ4T, DQ2T/CQn2T, DQ1T) (io), B10 IO, (DIFFIO_RX_T23n, DIFFOUT_T23n, DQSn8T, DQ4T, DQ2T, DQSn1T/DQ1T) (io), B11 IO, (DIFFIO_TX_T24p, DIFFOUT_T24p, DQ8T, DQ4T, DQ2T, DQ1T) (io), C6 IO, (DIFFIO_TX_T20p, DIFFOUT_T20p, DQ7T, DQ4T, DQ2T, DQ1T) (io), C7 IO, (DIFFIO_TX_T20n, DIFFOUT_T20n, DQ7T, DQ4T, DQ2T, DQ1T) (io), C9 IO, (DIFFIO_RX_T27n, DIFFOUT_T27n, DQSn9T, DQSn5T/DQ5T, DQ3T, DQ1T) (io), C10 IO, (DIFFIO_RX_T23p, DIFFOUT_T23p, DQS8T, DQ4T/CQn4T, DQ2T, DQS1T/CQ1T) (io), C11 IO, (DIFFIO_TX_T24n, DIFFOUT_T24n, DQ8T, DQ4T, DQ2T, DQ1T) (io), D9 IO, (DIFFIO_RX_T27p, DIFFOUT_T27p, DQS9T, DQS5T/CQ5T, DQ3T, DQ1T/CQn1T) (io), D10 IO, (DIFFIO_TX_T30p, DIFFOUT_T30p, DQ10T, DQ5T, DQ3T, DQ1T) (io), E7 IO, (DIFFIO_RX_T25p, DIFFOUT_T25p, DQ9T, DQ5T, DQ3T, DQ1T) (io), E8 IO, (DIFFIO_RX_T25n, DIFFOUT_T25n, DQ9T, DQ5T, DQ3T, DQ1T) (io), E9 IO, (DIFFIO_RX_T29n, DIFFOUT_T29n, DQSn10T, DQ5T, DQSn3T/DQ3T, DQ1T) (io), E10 IO, (DIFFIO_RX_T29p, DIFFOUT_T29p, DQS10T, DQ5T/CQn5T, DQS3T/CQ3T, DQ1T) (io), E11 IO, (DIFFIO_TX_T30n, DIFFOUT_T30n, DQ10T, DQ5T, DQ3T, DQ1T) (io), F8 IO, (DIFFIO_TX_T28p, DIFFOUT_T28p, DQ10T, DQ5T, DQ3T, DQ1T) (io), F9 IO, (DIFFIO_TX_T28n, DIFFOUT_T28n, DQ10T, DQ5T, DQ3T, DQ1T) (io), G7 IO, (DIFFIO_TX_T26p, DIFFOUT_T26p, DQ9T, DQ5T, DQ3T, DQ1T) (io), G8 IO, (DIFFIO_TX_T26n, DIFFOUT_T26n, DQ9T, DQ5T, DQ3T, DQ1T) (io), G9 IO, (DIFFIO_TX_T36n, DIFFOUT_T36n, DQ12T, DQ6T, DQ3T, DQ1T) (io), G10 IO, (DIFFIO_TX_T36p, DIFFOUT_T36p, DQ12T, DQ6T, DQ3T, DQ1T) (io), H8 IO, (DIFFIO_RX_T17n, DIFFOUT_T17n, DQSn6T, DQ3T, DQSn2T/DQ2T, DQ1T) (io), H10 IO, (DIFFIO_RX_T35n, DIFFOUT_T35n, DQSn12T, DQ6T, DQ3T, DQ1T) (io), J6 IO, (DIFFIO_TX_T16n, DIFFOUT_T16n, DQ6T, DQ3T, DQ2T, DQ1T) (io), J7 IO, (DIFFIO_TX_T18n, DIFFOUT_T18n, DQ6T, DQ3T, DQ2T, DQ1T) (io), J8 IO, (DIFFIO_RX_T17p, DIFFOUT_T17p, DQS6T, DQ3T/CQn3T, DQS2T/CQ2T, DQ1T) (io), J9 IO, (DIFFIO_TX_T34n, DIFFOUT_T34n, DQ12T, DQ6T, DQ3T, DQ1T) (io), J10 IO, (DIFFIO_RX_T35p, DIFFOUT_T35p, DQS12T, DQ6T/CQn6T, DQ3T, DQ1T) (io), K6 IO, (DIFFIO_TX_T16p, DIFFOUT_T16p, DQ6T, DQ3T, DQ2T, DQ1T) (io), K7 IO, (DIFFIO_TX_T18p, DIFFOUT_T18p, DQ6T, DQ3T, DQ2T, DQ1T) (io), K9 IO, (DIFFIO_TX_T34p, DIFFOUT_T34p, DQ12T, DQ6T, DQ3T, DQ1T) (io), L6 IO, (DIFFIO_TX_T14n, DIFFOUT_T14n, DQ5T, DQ3T, DQ2T, DQ1T) (io), L7 IO, (DIFFIO_TX_T14p, DIFFOUT_T14p, DQ5T, DQ3T, DQ2T, DQ1T) (io), L8 IO, (DIFFIO_RX_T15n, DIFFOUT_T15n, DQSn5T, DQSn3T/DQ3T, DQ2T, DQ1T) (io), L9 IO, (DIFFIO_RX_T33n, DIFFOUT_T33n, DQSn11T, DQSn6T/DQ6T, DQ3T, DQ1T) (io), L10 IO, (DIFFIO_RX_T33p, DIFFOUT_T33p, DQS11T, DQS6T/CQ6T, DQ3T/CQn3T, DQ1T) (io), M8 IO, (DIFFIO_RX_T15p, DIFFOUT_T15p, DQS5T, DQS3T/CQ3T, DQ2T, DQ1T) (io), M9 IO, (DIFFIO_RX_T13n, DIFFOUT_T13n, DQ5T, DQ3T, DQ2T, DQ1T) (io), N9 IO, (DIFFIO_RX_T13p, DIFFOUT_T13p, DQ5T, DQ3T, DQ2T, DQ1T) (io), N10 IO, (DIFFIO_TX_T32p, DIFFOUT_T32p, DQ11T, DQ6T, DQ3T, DQ1T) (io), P10 IO, (DIFFIO_TX_T32n, DIFFOUT_T32n, DQ11T, DQ6T, DQ3T, DQ1T) (io), R9 IO, (DIFFIO_RX_T31n, DIFFOUT_T31n, DQ11T, DQ6T, DQ3T, DQ1T) (io), T9 IO, (DIFFIO_RX_T31p, DIFFOUT_T31p, DQ11T, DQ6T, DQ3T, DQ1T) (io)
part K pins: A13 IO, (DIFFIO_TX_T38p, DIFFOUT_T38p, DQ13T, DQ7T, DQ4T, DQ2T) (io), A14 IO, (DIFFIO_TX_T38n, DIFFOUT_T38n, DQ13T, DQ7T, DQ4T, DQ2T) (io), B13 IO, (DIFFIO_TX_T40n, DIFFOUT_T40n, DQ14T, DQ7T, DQ4T, DQ2T) (io), B14 IO, (DIFFIO_RX_T37n, DIFFOUT_T37n, DQ13T, DQ7T, DQ4T, DQ2T) (io), B16 IO, (DIFFIO_RX_T39n, DIFFOUT_T39n, DQSn13T, DQSn7T/DQ7T, DQ4T, DQ2T) (io), C12 IO, (DIFFIO_TX_T44n, DIFFOUT_T44n, DQ15T, DQ8T, DQ4T, DQ2T) (io), C13 IO, (DIFFIO_TX_T40p, DIFFOUT_T40p, DQ14T, DQ7T, DQ4T, DQ2T) (io), C15 IO, (DIFFIO_RX_T37p, DIFFOUT_T37p, DQ13T, DQ7T, DQ4T, DQ2T) (io), C16 IO, (DIFFIO_RX_T39p, DIFFOUT_T39p, DQS13T, DQS7T/CQ7T, DQ4T, DQ2T) (io), D12 IO, (DIFFIO_TX_T44p, DIFFOUT_T44p, DQ15T, DQ8T, DQ4T, DQ2T) (io), D13 IO, (DIFFIO_TX_T46p, DIFFOUT_T46p, DQ16T, DQ8T, DQ4T, DQ2T) (io), D15 IO, (DIFFIO_TX_T42n, DIFFOUT_T42n, DQ14T, DQ7T, DQ4T, DQ2T) (io), D16 IO, (DIFFIO_RX_T41n, DIFFOUT_T41n, DQSn14T, DQ7T, DQSn4T/DQ4T, DQ2T) (io), E12 IO, (DIFFIO_RX_T43p, DIFFOUT_T43p, DQ15T, DQ8T, DQ4T, DQ2T) (io), E13 IO, (DIFFIO_TX_T46n, DIFFOUT_T46n, DQ16T, DQ8T, DQ4T, DQ2T) (io), E14 IO, (DIFFIO_TX_T48n, DIFFOUT_T48n, DQ16T, DQ8T, DQ4T, DQ2T) (io), E15 IO, (DIFFIO_TX_T42p, DIFFOUT_T42p, DQ14T, DQ7T, DQ4T, DQ2T) (io), E16 IO, (DIFFIO_RX_T41p, DIFFOUT_T41p, DQS14T, DQ7T/CQn7T, DQS4T/CQ4T, DQ2T) (io), F11 IO, (DIFFIO_RX_T45n, DIFFOUT_T45n, DQSn15T, DQSn8T/DQ8T, DQ4T, DQ2T) (io), F12 IO, (DIFFIO_RX_T43n, DIFFOUT_T43n, DQ15T, DQ8T, DQ4T, DQ2T) (io), F14 IO, (DIFFIO_TX_T48p, DIFFOUT_T48p, DQ16T, DQ8T, DQ4T, DQ2T) (io), F15 IO, (DIFFIO_RX_T47n, DIFFOUT_T47n, DQSn16T, DQ8T, DQ4T, DQSn2T/DQ2T) (io), G11 IO, (DIFFIO_RX_T45p, DIFFOUT_T45p, DQS15T, DQS8T/CQ8T, DQ4T/CQn4T, DQ2T) (io), G12 IO, (DIFFIO_TX_T52n, DIFFOUT_T52n, DQ18T, DQ9T, DQ5T, DQ2T) (io), G13 IO, (DIFFIO_RX_T55n, DIFFOUT_T55n, DQ19T, DQ10T, DQ5T, DQ2T) (io), G14 IO, (DIFFIO_TX_T56n, DIFFOUT_T56n, DQ19T, DQ10T, DQ5T, DQ2T) (io), G15 IO, (DIFFIO_RX_T47p, DIFFOUT_T47p, DQS16T, DQ8T/CQn8T, DQ4T, DQS2T/CQ2T) (io), G16 IO, (DIFFIO_TX_T58n, DIFFOUT_T58n, DQ20T, DQ10T, DQ5T, DQ2T) (io), H11 IO, (DIFFIO_TX_T52p, DIFFOUT_T52p, DQ18T, DQ9T, DQ5T, DQ2T) (io), H13 IO, (DIFFIO_RX_T55p, DIFFOUT_T55p, DQ19T, DQ10T, DQ5T, DQ2T) (io), H14 IO, (DIFFIO_TX_T56p, DIFFOUT_T56p, DQ19T, DQ10T, DQ5T, DQ2T) (io), H16 IO, (DIFFIO_TX_T58p, DIFFOUT_T58p, DQ20T, DQ10T, DQ5T, DQ2T) (io), J12 IO, (DIFFIO_RX_T53n, DIFFOUT_T53n, DQSn18T, DQ9T, DQSn5T/DQ5T, DQ2T) (io), J13 IO, (DIFFIO_RX_T57n, DIFFOUT_T57n, DQSn19T, DQSn10T/DQ10T, DQ5T, DQ2T) (io), J14 IO, (DIFFIO_RX_T57p, DIFFOUT_T57p, DQS19T, DQS10T/CQ10T, DQ5T/CQn5T, DQ2T) (io), J15 IO, (DIFFIO_RX_T59p, DIFFOUT_T59p, DQS20T, DQ10T/CQn10T, DQ5T, DQ2T) (io), K12 IO, (DIFFIO_RX_T53p, DIFFOUT_T53p, DQS18T, DQ9T/CQn9T, DQS5T/CQ5T, DQ2T) (io), K13 IO, (DIFFIO_TX_T60n, DIFFOUT_T60n, DQ20T, DQ10T, DQ5T, DQ2T) (io), K14 IO, (DIFFIO_TX_T60p, DIFFOUT_T60p, DQ20T, DQ10T, DQ5T, DQ2T) (io), K15 IO, (DIFFIO_RX_T59n, DIFFOUT_T59n, DQSn20T, DQ10T, DQ5T, DQ2T) (io), L11 IO, (DIFFIO_RX_T49n, DIFFOUT_T49n, DQ17T, DQ9T, DQ5T, DQ2T) (io), L12 IO, (DIFFIO_TX_T54p, DIFFOUT_T54p, DQ18T, DQ9T, DQ5T, DQ2T) (io), L13 IO, (DIFFIO_TX_T54n, DIFFOUT_T54n, DQ18T, DQ9T, DQ5T, DQ2T) (io), M12 IO, (DIFFIO_RX_T49p, DIFFOUT_T49p, DQ17T, DQ9T, DQ5T, DQ2T) (io), N11 IO, (DIFFIO_TX_T50p, DIFFOUT_T50p, DQ17T, DQ9T, DQ5T, DQ2T) (io), N12 IO, (DIFFIO_RX_T51p, DIFFOUT_T51p, DQS17T, DQS9T/CQ9T, DQ5T, DQ2T/CQn2T) (io), N13 IO, (DIFFIO_RX_T51n, DIFFOUT_T51n, DQSn17T, DQSn9T/DQ9T, DQ5T, DQ2T) (io), P11 IO, (DIFFIO_TX_T50n, DIFFOUT_T50n, DQ17T, DQ9T, DQ5T, DQ2T) (io)
part L pins: A16 IO, (DIFFIO_RX_T61p, DIFFOUT_T61p, DQ21T, DQ11T, DQ6T) (io), A17 IO, (DIFFIO_RX_T61n, DIFFOUT_T61n, DQ21T, DQ11T, DQ6T) (io), A19 IO, (DIFFIO_TX_T64n, DIFFOUT_T64n, DQ22T, DQ11T, DQ6T) (io), A20 IO, (DIFFIO_TX_T66n, DIFFOUT_T66n, DQ22T, DQ11T, DQ6T) (io), B17 IO, (DIFFIO_TX_T62n, DIFFOUT_T62n, DQ21T, DQ11T, DQ6T) (io), B19 IO, (DIFFIO_TX_T64p, DIFFOUT_T64p, DQ22T, DQ11T, DQ6T) (io), B20 IO, (DIFFIO_TX_T66p, DIFFOUT_T66p, DQ22T, DQ11T, DQ6T) (io), C17 IO, (DIFFIO_TX_T62p, DIFFOUT_T62p, DQ21T, DQ11T, DQ6T) (io), C19 IO, (DIFFIO_RX_T65n, DIFFOUT_T65n, DQSn22T, DQ11T, DQSn6T/DQ6T) (io), D18 IO, (DIFFIO_RX_T63p, DIFFOUT_T63p, DQS21T, DQS11T/CQ11T, DQ6T) (io), D19 IO, (DIFFIO_RX_T65p, DIFFOUT_T65p, DQS22T, DQ11T/CQn11T, DQS6T/CQ6T) (io), D21 IO, (DIFFIO_RX_T77n, DIFFOUT_T77n, DQSn26T, DQ13T) (io), E17 IO, FPLL_TC_CLKOUT2, FPLL_TC_FBp, FPLL_TC_FB1, (DIFFIO_RX_T71p, DIFFOUT_T71p, DQS24T, DQ12T/CQn12T, DQ6T) (io), E18 IO, FPLL_TC_CLKOUT1, FPLL_TC_CLKOUTn, (DIFFIO_TX_T72n, DIFFOUT_T72n, DQ24T, DQ12T, DQ6T) (io), E19 IO, (DIFFIO_RX_T63n, DIFFOUT_T63n, DQSn21T, DQSn11T/DQ11T, DQ6T) (io), E20 IO, (DIFFIO_TX_T78n, DIFFOUT_T78n, DQ26T, DQ13T) (io), E21 IO, (DIFFIO_RX_T77p, DIFFOUT_T77p, DQS26T, DQ13T/CQn13T) (io), F17 IO, FPLL_TC_CLKOUT3, FPLL_TC_FBn, (DIFFIO_RX_T71n, DIFFOUT_T71n, DQSn24T, DQ12T, DQ6T) (io), F18 IO, FPLL_TC_CLKOUT0, FPLL_TC_CLKOUTp, FPLL_TC_FB0, (DIFFIO_TX_T72p, DIFFOUT_T72p, DQ24T, DQ12T, DQ6T) (io), F20 IO, (DIFFIO_TX_T78p, DIFFOUT_T78p, DQ26T, DQ13T) (io), F21 IO, (DIFFIO_RX_T75n, DIFFOUT_T75n, DQSn25T, DQSn13T/DQ13T) (io), G17 IO, (DIFFIO_TX_T70n, DIFFOUT_T70n, DQ24T, DQ12T, DQ6T) (io), G19 IO, CLK18n, (DIFFIO_RX_T69n, DIFFOUT_T69n, DQSn23T, DQSn12T/DQ12T, DQ6T) (io), G20 IO, (DIFFIO_TX_T76n, DIFFOUT_T76n, DQ26T, DQ13T) (io), G21 IO, (DIFFIO_RX_T75p, DIFFOUT_T75p, DQS25T, DQS13T/CQ13T) (io), H17 IO, (DIFFIO_TX_T70p, DIFFOUT_T70p, DQ24T, DQ12T, DQ6T) (io), H19 IO, CLK18p, (DIFFIO_RX_T69p, DIFFOUT_T69p, DQS23T, DQS12T/CQ12T, DQ6T/CQn6T) (io), H20 IO, (DIFFIO_TX_T76p, DIFFOUT_T76p, DQ26T, DQ13T) (io), J16 IO, (DIFFIO_TX_T68p, DIFFOUT_T68p, DQ23T, DQ12T, DQ6T) (io), J18 IO, CLK19n, (DIFFIO_RX_T67n, DIFFOUT_T67n, DQ23T, DQ12T, DQ6T) (io), J19 IO, CLK19p, (DIFFIO_RX_T67p, DIFFOUT_T67p, DQ23T, DQ12T, DQ6T) (io), J20 IO, (DIFFIO_TX_T74n, DIFFOUT_T74n, DQ25T, DQ13T) (io), J21 IO, (DIFFIO_RX_T73p, DIFFOUT_T73p, DQ25T, DQ13T) (io), J22 IO, (DIFFIO_RX_T73n, DIFFOUT_T73n, DQ25T, DQ13T) (io), K16 IO, (DIFFIO_TX_T68n, DIFFOUT_T68n, DQ23T, DQ12T, DQ6T) (io), K21 IO, (DIFFIO_TX_T74p, DIFFOUT_T74p, DQ25T, DQ13T) (io)
part M pins: A29 IO, CLK23n, (DIFFIO_RX_T193n, DIFFOUT_T193n) (io), A33 IO, CLK22n, (DIFFIO_RX_T195n, DIFFOUT_T195n) (io), B29 IO, CLK23p, (DIFFIO_RX_T193p, DIFFOUT_T193p) (io), B32 IO, CLK22p, (DIFFIO_RX_T195p, DIFFOUT_T195p) (io), B34 IO, FPLL_TL_CLKOUT3, FPLL_TL_FBn, (DIFFIO_RX_T197n, DIFFOUT_T197n) (io), C32 IO, FPLL_TL_CLKOUT0, FPLL_TL_CLKOUTp, FPLL_TL_FB0, (DIFFIO_TX_T198p, DIFFOUT_T198p) (io), C33 IO, FPLL_TL_CLKOUT1, FPLL_TL_CLKOUTn, (DIFFIO_TX_T198n, DIFFOUT_T198n) (io), C34 IO, FPLL_TL_CLKOUT2, FPLL_TL_FBp, FPLL_TL_FB1, (DIFFIO_RX_T197p, DIFFOUT_T197p) (io), D30 IO, CLK21n, (DIFFIO_RX_T199n, DIFFOUT_T199n) (io), D31 IO, CLK20n, (DIFFIO_RX_T201n, DIFFOUT_T201n) (io), E30 IO, CLK21p, (DIFFIO_RX_T199p, DIFFOUT_T199p) (io), E31 IO, CLK20p, (DIFFIO_RX_T201p, DIFFOUT_T201p) (io), F31 IO, RZQ_5, (DIFFIO_RX_T203n, DIFFOUT_T203n) (io), F32 IO, (DIFFIO_RX_T203p, DIFFOUT_T203p) (io)
part N pins: A25 IO, (DIFFIO_RX_T145n, DIFFOUT_T145n, DQ49T, DQ16T, DQ8T, DQ3T) (io), A26 IO, (DIFFIO_RX_T145p, DIFFOUT_T145p, DQ49T, DQ16T, DQ8T, DQ3T) (io), A28 IO, (DIFFIO_TX_T148n, DIFFOUT_T148n, DQ50T, DQ16T, DQ8T, DQ3T) (io), B25 IO, (DIFFIO_TX_T146n, DIFFOUT_T146n, DQ49T, DQ16T, DQ8T, DQ3T) (io), B26 IO, (DIFFIO_RX_T147p, DIFFOUT_T147p, DQS49T, DQS16T/CQ16T, DQ8T, DQ3T) (io), B28 IO, (DIFFIO_TX_T148p, DIFFOUT_T148p, DQ50T, DQ16T, DQ8T, DQ3T) (io), C25 IO, (DIFFIO_TX_T146p, DIFFOUT_T146p, DQ49T, DQ16T, DQ8T, DQ3T) (io), C27 IO, (DIFFIO_RX_T147n, DIFFOUT_T147n, DQSn49T, DQSn16T/DQ16T, DQ8T, DQ3T) (io), C28 IO, (DIFFIO_TX_T150p, DIFFOUT_T150p, DQ50T, DQ16T, DQ8T, DQ3T) (io), D25 IO, (DIFFIO_RX_T165n, DIFFOUT_T165n, DQSn55T, DQSn19T/DQ19T, DQ9T, DQ3T) (io), D27 IO, (DIFFIO_RX_T149n, DIFFOUT_T149n, DQSn50T, DQ16T, DQSn8T/DQ8T, DQ3T) (io), D28 IO, (DIFFIO_TX_T150n, DIFFOUT_T150n, DQ50T, DQ16T, DQ8T, DQ3T) (io), E25 IO, (DIFFIO_RX_T165p, DIFFOUT_T165p, DQS55T, DQS19T/CQ19T, DQ9T/CQn9T, DQ3T) (io), E26 IO, (DIFFIO_TX_T164n, DIFFOUT_T164n, DQ55T, DQ19T, DQ9T, DQ3T) (io), E27 IO, (DIFFIO_RX_T149p, DIFFOUT_T149p, DQS50T, DQ16T/CQn16T, DQS8T/CQ8T, DQ3T) (io), E28 IO, (DIFFIO_RX_T167n, DIFFOUT_T167n, DQSn56T, DQ19T, DQ9T, DQ3T) (io), F24 IO, (DIFFIO_RX_T163n, DIFFOUT_T163n, DQ55T, DQ19T, DQ9T, DQ3T) (io), F26 IO, (DIFFIO_TX_T164p, DIFFOUT_T164p, DQ55T, DQ19T, DQ9T, DQ3T) (io), F27 IO, (DIFFIO_RX_T167p, DIFFOUT_T167p, DQS56T, DQ19T/CQn19T, DQ9T, DQ3T) (io), G24 IO, (DIFFIO_RX_T163p, DIFFOUT_T163p, DQ55T, DQ19T, DQ9T, DQ3T) (io), G25 IO, (DIFFIO_TX_T158n, DIFFOUT_T158n, DQ53T, DQ18T, DQ9T, DQ3T) (io), G26 IO, (DIFFIO_RX_T159p, DIFFOUT_T159p, DQS53T, DQS18T/CQ18T, DQ9T, DQ3T/CQn3T) (io), G27 IO, (DIFFIO_RX_T159n, DIFFOUT_T159n, DQSn53T, DQSn18T/DQ18T, DQ9T, DQ3T) (io), G28 IO, (DIFFIO_TX_T166n, DIFFOUT_T166n, DQ56T, DQ19T, DQ9T, DQ3T) (io), H25 IO, (DIFFIO_TX_T158p, DIFFOUT_T158p, DQ53T, DQ18T, DQ9T, DQ3T) (io), H28 IO, (DIFFIO_TX_T166p, DIFFOUT_T166p, DQ56T, DQ19T, DQ9T, DQ3T) (io), H29 IO, (DIFFIO_TX_T168n, DIFFOUT_T168n, DQ56T, DQ19T, DQ9T, DQ3T) (io), J24 IO, (DIFFIO_TX_T152n, DIFFOUT_T152n, DQ51T, DQ17T, DQ8T, DQ3T) (io), J25 IO, (DIFFIO_RX_T153p, DIFFOUT_T153p, DQS51T, DQS17T/CQ17T, DQ8T/CQn8T, DQ3T) (io), J26 IO, (DIFFIO_RX_T153n, DIFFOUT_T153n, DQSn51T, DQSn17T/DQ17T, DQ8T, DQ3T) (io), J27 IO, (DIFFIO_RX_T157n, DIFFOUT_T157n, DQ53T, DQ18T, DQ9T, DQ3T) (io), J28 IO, (DIFFIO_RX_T161n, DIFFOUT_T161n, DQSn54T, DQ18T, DQSn9T/DQ9T, DQ3T) (io), J29 IO, (DIFFIO_TX_T168p, DIFFOUT_T168p, DQ56T, DQ19T, DQ9T, DQ3T) (io), K24 IO, (DIFFIO_RX_T151n, DIFFOUT_T151n, DQ51T, DQ17T, DQ8T, DQ3T) (io), K25 IO, (DIFFIO_TX_T152p, DIFFOUT_T152p, DQ51T, DQ17T, DQ8T, DQ3T) (io), K27 IO, (DIFFIO_RX_T157p, DIFFOUT_T157p, DQ53T, DQ18T, DQ9T, DQ3T) (io), K28 IO, (DIFFIO_RX_T161p, DIFFOUT_T161p, DQS54T, DQ18T/CQn18T, DQS9T/CQ9T, DQ3T) (io), L24 IO, (DIFFIO_RX_T151p, DIFFOUT_T151p, DQ51T, DQ17T, DQ8T, DQ3T) (io), L25 IO, (DIFFIO_TX_T154p, DIFFOUT_T154p, DQ52T, DQ17T, DQ8T, DQ3T) (io), L26 IO, (DIFFIO_TX_T154n, DIFFOUT_T154n, DQ52T, DQ17T, DQ8T, DQ3T) (io), L27 IO, (DIFFIO_TX_T160p, DIFFOUT_T160p, DQ54T, DQ18T, DQ9T, DQ3T) (io), L28 IO, (DIFFIO_TX_T162p, DIFFOUT_T162p, DQ54T, DQ18T, DQ9T, DQ3T) (io), L29 IO, (DIFFIO_TX_T162n, DIFFOUT_T162n, DQ54T, DQ18T, DQ9T, DQ3T) (io), M26 IO, (DIFFIO_TX_T156n, DIFFOUT_T156n, DQ52T, DQ17T, DQ8T, DQ3T) (io), M27 IO, (DIFFIO_TX_T160n, DIFFOUT_T160n, DQ54T, DQ18T, DQ9T, DQ3T) (io), N26 IO, (DIFFIO_TX_T156p, DIFFOUT_T156p, DQ52T, DQ17T, DQ8T, DQ3T) (io), P25 IO, (DIFFIO_RX_T155p, DIFFOUT_T155p, DQS52T, DQ17T/CQn17T, DQ8T, DQS3T/CQ3T) (io), P26 IO, (DIFFIO_RX_T155n, DIFFOUT_T155n, DQSn52T, DQ17T, DQ8T, DQSn3T/DQ3T) (io)
part O pins: A21 IO, CLK17p, (DIFFIO_RX_T133p, DIFFOUT_T133p, DQ45T, DQ14T, DQ7T) (io), A22 IO, CLK17n, (DIFFIO_RX_T133n, DIFFOUT_T133n, DQ45T, DQ14T, DQ7T) (io), A23 IO, CLK16n, (DIFFIO_RX_T135n, DIFFOUT_T135n, DQSn45T, DQSn14T/DQ14T, DQ7T) (io), B22 IO, (DIFFIO_TX_T134n, DIFFOUT_T134n, DQ45T, DQ14T, DQ7T) (io), B23 IO, CLK16p, (DIFFIO_RX_T135p, DIFFOUT_T135p, DQS45T, DQS14T/CQ14T, DQ7T) (io), C21 IO, (DIFFIO_TX_T134p, DIFFOUT_T134p, DQ45T, DQ14T, DQ7T) (io), C22 IO, (DIFFIO_RX_T137n, DIFFOUT_T137n, DQSn46T, DQ14T, DQSn7T/DQ7T) (io), C23 IO, (DIFFIO_TX_T138p, DIFFOUT_T138p, DQ46T, DQ14T, DQ7T) (io), D22 IO, (DIFFIO_RX_T137p, DIFFOUT_T137p, DQS46T, DQ14T/CQn14T, DQS7T/CQ7T) (io), D24 IO, (DIFFIO_TX_T138n, DIFFOUT_T138n, DQ46T, DQ14T, DQ7T) (io), E22 IO, (DIFFIO_RX_T143n, DIFFOUT_T143n, DQSn48T, DQ15T, DQ7T) (io), E23 IO, (DIFFIO_TX_T136n, DIFFOUT_T136n, DQ46T, DQ14T, DQ7T) (io), E24 IO, (DIFFIO_TX_T136p, DIFFOUT_T136p, DQ46T, DQ14T, DQ7T) (io), F23 IO, (DIFFIO_RX_T143p, DIFFOUT_T143p, DQS48T, DQ15T/CQn15T, DQ7T) (io), G22 IO, (DIFFIO_TX_T142n, DIFFOUT_T142n, DQ48T, DQ15T, DQ7T) (io), G23 IO, (DIFFIO_TX_T144n, DIFFOUT_T144n, DQ48T, DQ15T, DQ7T) (io), H22 IO, (DIFFIO_TX_T142p, DIFFOUT_T142p, DQ48T, DQ15T, DQ7T) (io), H23 IO, (DIFFIO_TX_T144p, DIFFOUT_T144p, DQ48T, DQ15T, DQ7T) (io), K22 IO, (DIFFIO_RX_T141n, DIFFOUT_T141n, DQSn47T, DQSn15T/DQ15T, DQ7T) (io), L22 IO, (DIFFIO_TX_T140n, DIFFOUT_T140n, DQ47T, DQ15T, DQ7T) (io), L23 IO, (DIFFIO_RX_T141p, DIFFOUT_T141p, DQS47T, DQS15T/CQ15T, DQ7T/CQn7T) (io), M22 IO, (DIFFIO_TX_T140p, DIFFOUT_T140p, DQ47T, DQ15T, DQ7T) (io), M23 IO, (DIFFIO_RX_T139n, DIFFOUT_T139n, DQ47T, DQ15T, DQ7T) (io), M24 IO, (DIFFIO_RX_T139p, DIFFOUT_T139p, DQ47T, DQ15T, DQ7T) (io)
part P pins: AA33 GXB_RX_L5p, GXB_REFCLK_L5p (in), AA34 GXB_RX_L5n, GXB_REFCLK_L5n (in), AB31 GXB_TX_L4p (out), AB32 GXB_TX_L4n (out), AC33 GXB_RX_L4p, GXB_REFCLK_L4p (in), AC34 GXB_RX_L4n, GXB_REFCLK_L4n (in), AD31 GXB_TX_L3p (out), AD32 GXB_TX_L3n (out), AE33 GXB_RX_L3p, GXB_REFCLK_L3p (in), AE34 GXB_RX_L3n, GXB_REFCLK_L3n (in), AF31 GXB_TX_L2p (out), AF32 GXB_TX_L2n (out), AG33 GXB_RX_L2p, GXB_REFCLK_L2p (in), AG34 GXB_RX_L2n, GXB_REFCLK_L2n (in), AH31 GXB_TX_L1p (out), AH32 GXB_TX_L1n (out), AJ33 GXB_RX_L1p, GXB_REFCLK_L1p (in), AJ34 GXB_RX_L1n, GXB_REFCLK_L1n (in), AK31 GXB_TX_L0p (out), AK32 GXB_TX_L0n (out), AL33 GXB_RX_L0p, GXB_REFCLK_L0p (in), AL34 GXB_RX_L0n, GXB_REFCLK_L0n (in), U28 REFCLK1Lp (in), U29 REFCLK1Ln (in), W29 REFCLK0Lp (in), W30 REFCLK0Ln (in), Y31 GXB_TX_L5p (out), Y32 GXB_TX_L5n (out)
part Q pins: H31 GXB_TX_L11p (out), H32 GXB_TX_L11n (out), J33 GXB_RX_L11p, GXB_REFCLK_L11p (in), J34 GXB_RX_L11n, GXB_REFCLK_L11n (in), K31 GXB_TX_L10p (out), K32 GXB_TX_L10n (out), L33 GXB_RX_L10p, GXB_REFCLK_L10p (in), L34 GXB_RX_L10n, GXB_REFCLK_L10n (in), M31 GXB_TX_L9p (out), M32 GXB_TX_L9n (out), N28 REFCLK3Lp (in), N29 REFCLK3Ln (in), N33 GXB_RX_L9p, GXB_REFCLK_L9p (in), N34 GXB_RX_L9n, GXB_REFCLK_L9n (in), P31 GXB_TX_L8p (out), P32 GXB_TX_L8n (out), R29 REFCLK2Lp (in), R30 REFCLK2Ln (in), R33 GXB_RX_L8p, GXB_REFCLK_L8p (in), R34 GXB_RX_L8n, GXB_REFCLK_L8n (in), T31 GXB_TX_L7p (out), T32 GXB_TX_L7n (out), U33 GXB_RX_L7p, GXB_REFCLK_L7p (in), U34 GXB_RX_L7n, GXB_REFCLK_L7n (in), V31 GXB_TX_L6p (out), V32 GXB_TX_L6n (out), W33 GXB_RX_L6p, GXB_REFCLK_L6p (in), W34 GXB_RX_L6n, GXB_REFCLK_L6n (in)
part R pins: AA1 GXB_RX_R5n, GXB_REFCLK_R5n (in), AA2 GXB_RX_R5p, GXB_REFCLK_R5p (in), AB3 GXB_TX_R4n (out), AB4 GXB_TX_R4p (out), AC1 GXB_RX_R4n, GXB_REFCLK_R4n (in), AC2 GXB_RX_R4p, GXB_REFCLK_R4p (in), AD3 GXB_TX_R3n (out), AD4 GXB_TX_R3p (out), AE1 GXB_RX_R3n, GXB_REFCLK_R3n (in), AE2 GXB_RX_R3p, GXB_REFCLK_R3p (in), AF3 GXB_TX_R2n (out), AF4 GXB_TX_R2p (out), AG1 GXB_RX_R2n, GXB_REFCLK_R2n (in), AG2 GXB_RX_R2p, GXB_REFCLK_R2p (in), AH3 GXB_TX_R1n (out), AH4 GXB_TX_R1p (out), AJ1 GXB_RX_R1n, GXB_REFCLK_R1n (in), AJ2 GXB_RX_R1p, GXB_REFCLK_R1p (in), AK3 GXB_TX_R0n (out), AK4 GXB_TX_R0p (out), AL1 GXB_RX_R0n, GXB_REFCLK_R0n (in), AL2 GXB_RX_R0p, GXB_REFCLK_R0p (in), U6 REFCLK1Rn (in), U7 REFCLK1Rp (in), W5 REFCLK0Rn (in), W6 REFCLK0Rp (in), Y3 GXB_TX_R5n (out), Y4 GXB_TX_R5p (out)
part S pins: H3 GXB_TX_R11n (out), H4 GXB_TX_R11p (out), J1 GXB_RX_R11n, GXB_REFCLK_R11n (in), J2 GXB_RX_R11p, GXB_REFCLK_R11p (in), K3 GXB_TX_R10n (out), K4 GXB_TX_R10p (out), L1 GXB_RX_R10n, GXB_REFCLK_R10n (in), L2 GXB_RX_R10p, GXB_REFCLK_R10p (in), M3 GXB_TX_R9n (out), M4 GXB_TX_R9p (out), N1 GXB_RX_R9n, GXB_REFCLK_R9n (in), N2 GXB_RX_R9p, GXB_REFCLK_R9p (in), N6 REFCLK3Rn (in), N7 REFCLK3Rp (in), P3 GXB_TX_R8n (out), P4 GXB_TX_R8p (out), R1 GXB_RX_R8n, GXB_REFCLK_R8n (in), R2 GXB_RX_R8p, GXB_REFCLK_R8p (in), R5 REFCLK2Rn (in), R6 REFCLK2Rp (in), T3 GXB_TX_R7n (out), T4 GXB_TX_R7p (out), U1 GXB_RX_R7n, GXB_REFCLK_R7n (in), U2 GXB_RX_R7p, GXB_REFCLK_R7p (in), V3 GXB_TX_R6n (out), V4 GXB_TX_R6p (out), W1 GXB_RX_R6n, GXB_REFCLK_R6n (in), W2 GXB_RX_R6p, GXB_REFCLK_R6p (in)
part T pins: AA5 MSEL1 (in), AA6 MSEL0 (in), AA29 AS_DATA1 (io), AB28 DCLK (io), AC27 nCSO (out), AC28 AS_DATA2 (io), AE5 CONF_DONE (io), AE30 nCONFIG (in), AF27 AS_DATA3 (io), AF28 AS_DATA0, ASDO (io), AG5 MSEL4 (in), AJ5 MSEL3 (in), AJ30 TMS (in), AK29 TDO (out), AL5 MSEL2 (in), AL29 TDI (in), AM4 nSTATUS (io), AN3 nCE (in), AN31 TCK (in), AP3 nIO_PULLUP (in), L5 TEMPDIODEp (in), M6 TEMPDIODEn (in), Y27 ~{TRST} (in)
part U pins: A3 VCCIO7A (power), A6 VCCIO7B (power), A9 VCCIO7B (power), A12 VCCIO7C (power), A15 VCCIO7C (power), A18 VCCIO7D (power), A24 VCCIO8D (power), A27 VCCIO8C (power), A30 VCCIO8A (power), AM9 VCCIO4B (power), AM15 VCCIO4D (power), AM21 VCCIO3C (power), AM27 VCCIO3A (power), AP5 VCCIO4A (power), AP8 VCCIO4B (power), AP11 VCCIO4C (power), AP14 VCCIO4C (power), AP17 VCCIO3D (power), AP20 VCCIO3C (power), AP23 VCCIO3B (power), AP26 VCCIO3B (power), AP29 VCCIO3A (power), C20 VCCIO7D (power), C26 VCCIO8C (power), L15 VCC (power), L17 VCC (power), L19 VCC (power), L21 VCC (power), M14 VCC (power), M15 VCC (power), M16 VCC (power), M18 VCC (power), M19 VCC (power), M20 VCC (power), N14 VCC (power), N16 VCC (power), N17 VCC (power), N18 VCC (power), N19 VCC (power), N21 VCC (power), P15 VCC (power), P16 VCC (power), P17 VCC (power), P19 VCC (power), P20 VCC (power), P21 VCC (power), R14 VCC (power), R15 VCC (power), R16 VCC (power), R18 VCC (power), R19 VCC (power), R20 VCC (power), T14 VCC (power), T16 VCC (power), T18 VCC (power), T19 VCC (power), T20 VCC (power), T21 VCC (power), U14 VCC (power), U15 VCC (power), U16 VCC (power), U18 VCC (power), U19 VCC (power), U20 VCC (power), U21 VCC (power), V15 VCC (power), V17 VCC (power), V19 VCC (power), V21 VCC (power)
part V pins: AA10 VCCPT (power), AA17 VCCPT (power), AB16 VREFB4DN0 (power), AB25 VCCPT (power), AC18 VCCA_FPLL (power), AD10 VREFB4BN0 (power), AD13 VREFB4CN0 (power), AD18 VCCD_FPLL (power), AD19 VREFB3DN0 (power), AD21 VREFB3CN0 (power), AD25 VREFB3BN0 (power), AD27 VREFB3AN0 (power), AE7 VREFB4AN0 (power), AG28 VCC_AUX (power), AH6 VCC_AUX (power), AH7 VCCBAT (power), AH19 VCC_AUX (power), AH28 VCCPGM (power), AH29 VCCA_FPLL (power), AJ6 VCCA_FPLL (power), AJ29 VCCD_FPLL (power), AK6 VCCD_FPLL (power), AK7 VCCPGM (power), AL20 VCCPD3CD (power), AM8 VCCPD4 (power), AM12 VCCPD4 (power), AM24 VCCPD3AB (power), AM29 VCCPD3AB (power), C5 VREFB7AN0 (power), C8 VCCPD7 (power), C14 VCCPD7 (power), C18 VCCPD7 (power), C24 VCCPD8 (power), C29 VREFB8AN0 (power), C30 VCCPD8 (power), F6 VCCD_FPLL (power), F29 VCCD_FPLL (power), G6 VCCA_FPLL (power), G18 VCC_AUX (power), G29 VCCA_FPLL (power), H7 VCC_AUX (power), H26 VREFB8CN0 (power), J11 VREFB7CN0 (power), J17 VREFB7DN0 (power), J23 VREFB8DN0 (power), J30 VCC_AUX (power), K10 VREFB7BN0 (power), K17 VCCA_FPLL (power), K18 VCCD_FPLL (power), K19 VCCPT (power), M11 VCCPT (power), N25 VCCPT (power), R8 VCCD_FPLL (power), R27 VCCD_FPLL (power), T8 VCCA_FPLL (power), T27 VCCA_FPLL (power), V8 VCCD_FPLL (power), V27 VCCD_FPLL (power), W8 VCCA_FPLL (power), W27 VCCA_FPLL (power)
part W pins: N5 VCCA_GXBR1 (power), N30 VCCA_GXBL1 (power), P5 VCCH_GXBR1 (power), P7 VCCT_GXBR1 (power), P12 VCCHSSI_R (power), P22 VCCHIP_L (power), P24 VCCHSSI_L (power), P28 VCCT_GXBL1 (power), P30 VCCH_GXBL1 (power), R7 VCCT_GXBR1 (power), R11 VCCHSSI_R (power), R22 VCCHIP_L (power), R23 VCCHSSI_L (power), R28 VCCT_GXBL1 (power), T6 VCCR_GXBR1 (power), T12 VCCHSSI_R (power), T22 VCCHIP_L (power), T24 VCCHSSI_L (power), T29 VCCR_GXBL1 (power), U5 VCCA_GXBR0 (power), U30 VCCA_GXBL0 (power), V5 VCCH_GXBR0 (power), V7 VCCT_GXBR0 (power), V28 VCCT_GXBL0 (power), V30 VCCH_GXBL0 (power), W7 VCCT_GXBR0 (power), W28 VCCT_GXBL0 (power), Y6 VCCR_GXBR0 (power), Y29 VCCR_GXBL0 (power)